# Altium footprint library Fuse_SMD_Pcb.PcbLib: 1 footprints
Each footprint in its own frame and in the unit in brackets; x right, y up, seen from the top. Pads: shape width x height; smd on the part's side, far side on the other; paste and mask are expansions set on the pad; w line width, h text height; cw(c..) or ccw(c..) is an arc to the next point about the centre after c.
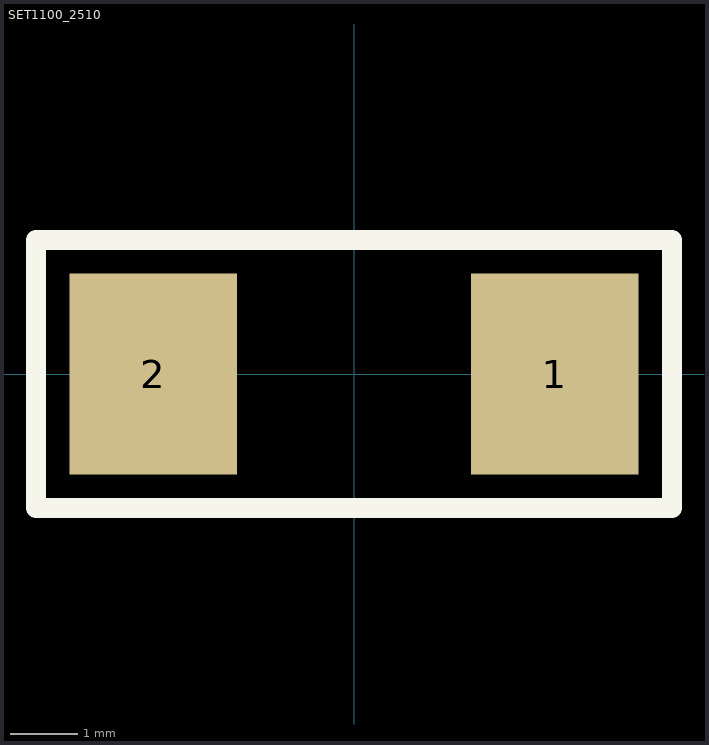
[diagram p0: the footprint, top view; thin cyan lines are the x and y axes]

## SET1100_2510 [mm]
pads (2):
  rect 2.5x3 smd: 1(3,0) 2(-3,0)
Top Overlay:
  lines w0.3: -4.75,-2 4.75,-2 4.75,2 -4.75,2 -4.75,-2
Mechanical 1:
  text ".Designator" at -2.75,-0.464 h1.52
3D body "2512 SMD fuse.step": height 2.61, standoff 0.01, extent -3.05,-1.3 3.05,1.3